# Altium footprint library Connector_Wago.PcbLib: 34 footprints (part 3 of 3)
Each footprint in its own frame and in the unit in brackets; x right, y up, seen from the top. Pads: shape width x height; smd on the part's side, far side on the other; paste and mask are expansions set on the pad; w line width, h text height; cw(c..) or ccw(c..) is an arc to the next point about the centre after c.
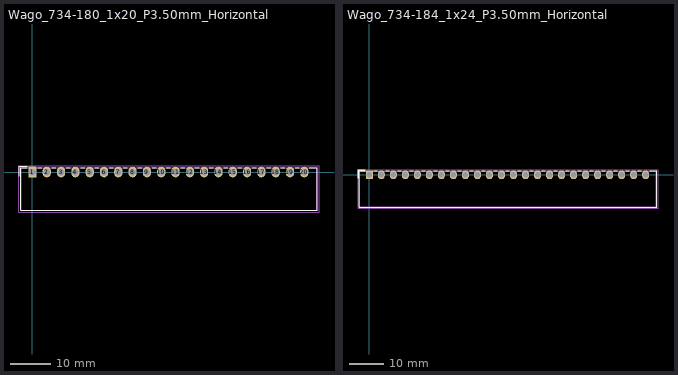
[diagram p2: the footprints below, top view; thin cyan lines are the x and y axes]

## Wago_734-180_1x20_P3.50mm_Horizontal [mm]
pads (20):
  rrect12% 2x2.6 hole 1.6: 1(0,0)
  rrect100% 2x2.6 hole 1.6: 2(3.5,0) 3(7,0) 4(10.5,0) 5(14,0) 6(17.5,0) 7(21,0) 8(24.5,0) 9(28,0) 10(31.5,0) 11(35,0) 12(38.5,0) 13(42,0) 14(45.5,0) 15(49,0) 16(52.5,0) 17(56,0) 18(59.5,0) 19(63,0) 20(66.5,0)
F.SilkS:
  lines w0.254: -3.21,-1 -3.21,1.41 -1.26,1.41 ; -1.26,1.11 -2.91,1.11 -2.91,-9.41 69.71,-9.41 69.71,1.11 67.76,1.11 ; 1.26,1.11 2.24,1.11 ; 4.76,1.11 5.74,1.11 ; 8.26,1.11 9.24,1.11 ; 11.76,1.11 12.74,1.11 ; 15.26,1.11 16.24,1.11 ; 18.76,1.11 19.74,1.11 ; 22.26,1.11 23.24,1.11 ; 25.76,1.11 26.74,1.11 ; 29.26,1.11 30.24,1.11 ; 32.76,1.11 33.74,1.11 ; 36.26,1.11 37.24,1.11 ; 39.76,1.11 40.74,1.11 ; 43.26,1.11 44.24,1.11 ; 46.76,1.11 47.74,1.11 ; 50.26,1.11 51.24,1.11 ; 53.76,1.11 54.74,1.11 ; 57.26,1.11 58.24,1.11 ; 60.76,1.11 61.74,1.11 ; 64.26,1.11 65.24,1.11
Top Assembly:
  lines w0.254: -0.5,1 0,0.293 0.5,1 ; -2.8,-9.3 69.6,-9.3 69.6,1 -2.8,1 -2.8,-9.3
  text "'.Designator'" at 29.353,-9.44 h1
Top Courtyard:
  lines w0.254: -3.3,-9.8 70.1,-9.8 70.1,1.5 -3.3,1.5 -3.3,-9.8
Top Designator:
  text ".Designator" at 25.782,-4.658 h1.52

## Wago_734-184_1x24_P3.50mm_Horizontal [mm]
pads (24):
  rrect12% 2x2.6 hole 1.6: 1(0,0)
  rrect100% 2x2.6 hole 1.6: 2(3.5,0) 3(7,0) 4(10.5,0) 5(14,0) 6(17.5,0) 7(21,0) 8(24.5,0) 9(28,0) 10(31.5,0) 11(35,0) 12(38.5,0) 13(42,0) 14(45.5,0) 15(49,0) 16(52.5,0) 17(56,0) 18(59.5,0) 19(63,0) 20(66.5,0) 21(70,0) 22(73.5,0) 23(77,0) 24(80.5,0)
F.SilkS:
  lines w0.254: -3.21,-1 -3.21,1.41 -1.26,1.41 ; -1.26,1.11 -2.91,1.11 -2.91,-9.41 83.71,-9.41 83.71,1.11 81.76,1.11 ; 1.26,1.11 2.24,1.11 ; 4.76,1.11 5.74,1.11 ; 8.26,1.11 9.24,1.11 ; 11.76,1.11 12.74,1.11 ; 15.26,1.11 16.24,1.11 ; 18.76,1.11 19.74,1.11 ; 22.26,1.11 23.24,1.11 ; 25.76,1.11 26.74,1.11 ; 29.26,1.11 30.24,1.11 ; 32.76,1.11 33.74,1.11 ; 36.26,1.11 37.24,1.11 ; 39.76,1.11 40.74,1.11 ; 43.26,1.11 44.24,1.11 ; 46.76,1.11 47.74,1.11 ; 50.26,1.11 51.24,1.11 ; 53.76,1.11 54.74,1.11 ; 57.26,1.11 58.24,1.11 ; 60.76,1.11 61.74,1.11 ; 64.26,1.11 65.24,1.11 ; 67.76,1.11 68.74,1.11 ; 71.26,1.11 72.24,1.11 ; 74.76,1.11 75.74,1.11 ; 78.26,1.11 79.24,1.11
Top Assembly:
  lines w0.254: -0.5,1 0,0.293 0.5,1 ; -2.8,-9.3 83.6,-9.3 83.6,1 -2.8,1 -2.8,-9.3
  text "'.Designator'" at 36.353,-9.44 h1
Top Courtyard:
  lines w0.254: -3.3,-9.8 84.1,-9.8 84.1,1.5 -3.3,1.5 -3.3,-9.8
Top Designator:
  text ".Designator" at 32.782,-4.658 h1.52